# Altium footprint library 4.33-CCM-5.08mm卧式直插插座.PcbLib: 23 footprints (part 2 of 2)
Each footprint in its own frame and in the unit in brackets; x right, y up, seen from the top. Pads: shape width x height; smd on the part's side, far side on the other; paste and mask are expansions set on the pad; w line width, h text height; cw(c..) or ccw(c..) is an arc to the next point about the centre after c.
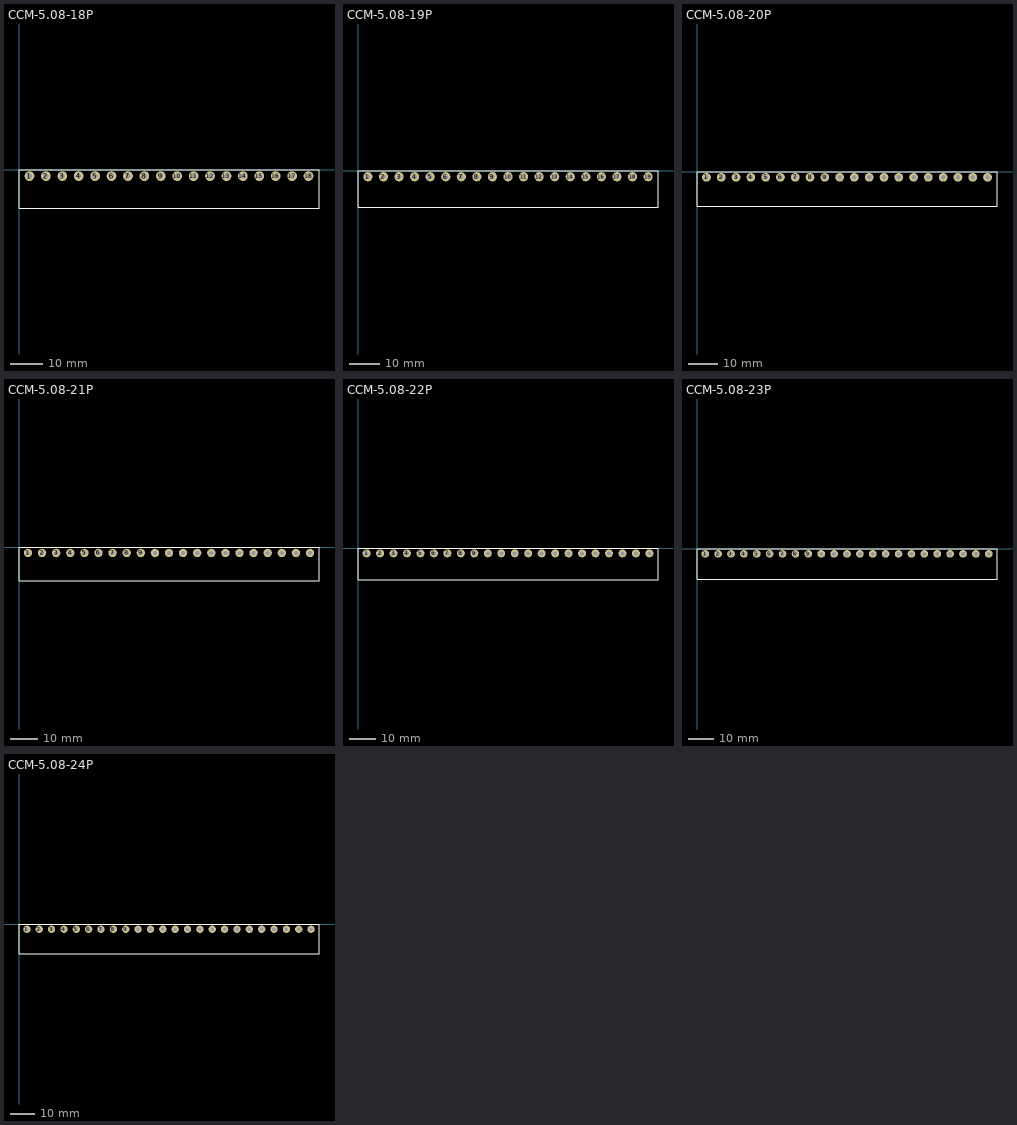
[diagram p1: the footprints below, top view; thin cyan lines are the x and y axes]

## CCM-5.08-18P [mm] "[ PCBѧϰȺ514746572 ]"
pads (18):
  round 3 hole 1.5: 1(3.24,-2) 2(8.32,-2) 3(13.4,-2) 4(18.48,-2) 5(23.56,-2) 6(28.64,-2) 7(33.72,-2) 8(38.8,-2) 9(43.88,-2) 10(48.96,-2) 11(54.04,-2) 12(59.12,-2) 13(64.2,-2) 14(69.28,-2) 15(74.36,-2) 16(79.44,-2) 17(84.52,-2) 18(89.6,-2)
Top Overlay:
  lines w0.203: 5.08,-12 16.64,-12 ; 5.08,0 16.64,0 ; 10.16,-12 21.72,-12 ; 10.16,0 21.72,0 ; 11.56,-12 0,-12 0,0 11.56,0 ; 15.24,-12 26.8,-12 ; 15.24,0 26.8,0 ; 20.32,-12 92.84,-12 92.84,0 20.32,0
3D body "5.08-18P.STEP": height 8.54, standoff -3.96, extent 0.08,-12 92.92,0

## CCM-5.08-19P [mm] "[ PCBѧϰȺ514746572 ]"
pads (19):
  round 3 hole 1.5: 1(3.24,-2) 2(8.32,-2) 3(13.4,-2) 4(18.48,-2) 5(23.56,-2) 6(28.64,-2) 7(33.72,-2) 8(38.8,-2) 9(43.88,-2) 10(48.96,-2) 11(54.04,-2) 12(59.12,-2) 13(64.2,-2) 14(69.28,-2) 15(74.36,-2) 16(79.44,-2) 17(84.52,-2) 18(89.6,-2) 19(94.68,-2)
Top Overlay:
  lines w0.203: 5.08,-12 16.64,-12 ; 5.08,0 16.64,0 ; 10.16,-12 21.72,-12 ; 10.16,0 21.72,0 ; 11.56,-12 0,-12 0,0 11.56,0 ; 15.24,-12 26.8,-12 ; 15.24,0 26.8,0 ; 20.32,-12 97.92,-12 97.92,0 20.32,0
3D body "5.08-19P.STEP": height 8.54, standoff -3.96, extent 0.04,-12 97.96,0

## CCM-5.08-20P [mm] "[ PCBѧϰȺ514746572 ]"
pads (20):
  round 3 hole 1.5: 1(3.24,-2) 2(8.32,-2) 3(13.4,-2) 4(18.48,-2) 5(23.56,-2) 6(28.64,-2) 7(33.72,-2) 8(38.8,-2) 9(43.88,-2) 10(48.96,-2) 11(54.04,-2) 12(59.12,-2) 13(64.2,-2) 14(69.28,-2) 15(74.36,-2) 16(79.44,-2) 17(84.52,-2) 18(89.6,-2) 19(94.68,-2) 20(99.76,-2)
Top Overlay:
  lines w0.203: 5.08,-12 16.64,-12 ; 5.08,0 16.64,0 ; 10.16,-12 21.72,-12 ; 10.16,0 21.72,0 ; 11.56,-12 0,-12 0,0 11.56,0 ; 15.24,-12 26.8,-12 ; 15.24,0 26.8,0 ; 20.32,-12 103,-12 103,0 20.32,0
3D body "5.08-20P .STEP": height 8.54, standoff -3.96, extent 0,-12 103,0

## CCM-5.08-21P [mm] "[ PCBѧϰȺ514746572 ]"
pads (21):
  round 3 hole 1.5: 1(3.24,-2) 2(8.32,-2) 3(13.4,-2) 4(18.48,-2) 5(23.56,-2) 6(28.64,-2) 7(33.72,-2) 8(38.8,-2) 9(43.88,-2) 10(48.96,-2) 11(54.04,-2) 12(59.12,-2) 13(64.2,-2) 14(69.28,-2) 15(74.36,-2) 16(79.44,-2) 17(84.52,-2) 18(89.6,-2) 19(94.68,-2) 20(99.76,-2) 21(104.84,-2)
Top Overlay:
  lines w0.203: 5.08,-12 16.64,-12 ; 5.08,0 16.64,0 ; 10.16,-12 21.72,-12 ; 10.16,0 21.72,0 ; 11.56,-12 0,-12 0,0 11.56,0 ; 15.24,-12 26.8,-12 ; 15.24,0 26.8,0 ; 20.32,-12 108.08,-12 108.08,0 20.32,0
3D body "5.08-21P .STEP": height 8.54, standoff -3.96, extent 0,-12 108.08,0

## CCM-5.08-22P [mm] "[ PCBѧϰȺ514746572 ]"
pads (22):
  round 3 hole 1.5: 1(3.24,-2) 2(8.32,-2) 3(13.4,-2) 4(18.48,-2) 5(23.56,-2) 6(28.64,-2) 7(33.72,-2) 8(38.8,-2) 9(43.88,-2) 10(48.96,-2) 11(54.04,-2) 12(59.12,-2) 13(64.2,-2) 14(69.28,-2) 15(74.36,-2) 16(79.44,-2) 17(84.52,-2) 18(89.6,-2) 19(94.68,-2) 20(99.76,-2) 21(104.84,-2) 22(109.92,-2)
Top Overlay:
  lines w0.203: 5.08,-12 16.64,-12 ; 5.08,0 16.64,0 ; 10.16,-12 21.72,-12 ; 10.16,0 21.72,0 ; 11.56,-12 0,-12 0,0 11.56,0 ; 15.24,-12 26.8,-12 ; 15.24,0 26.8,0 ; 20.32,-12 113.16,-12 113.16,0 20.32,0
3D body "5.08-22P .STEP": height 8.54, standoff -3.96, extent 0,-12 113.16,0

## CCM-5.08-23P [mm] "[ PCBѧϰȺ514746572 ]"
pads (23):
  round 3 hole 1.5: 1(3.24,-2) 2(8.32,-2) 3(13.4,-2) 4(18.48,-2) 5(23.56,-2) 6(28.64,-2) 7(33.72,-2) 8(38.8,-2) 9(43.88,-2) 10(48.96,-2) 11(54.04,-2) 12(59.12,-2) 13(64.2,-2) 14(69.28,-2) 15(74.36,-2) 16(79.44,-2) 17(84.52,-2) 18(89.6,-2) 19(94.68,-2) 20(99.76,-2) 21(104.84,-2) 22(109.92,-2) 23(115,-2)
Top Overlay:
  lines w0.203: 5.08,-12 16.64,-12 ; 5.08,0 16.64,0 ; 10.16,-12 21.72,-12 ; 10.16,0 21.72,0 ; 11.56,-12 0,-12 0,0 11.56,0 ; 15.24,-12 26.8,-12 ; 15.24,0 26.8,0 ; 20.32,-12 118.24,-12 118.24,0 20.32,0
3D body "5.08-23P .STEP": height 8.54, standoff -3.96, extent 0,-12 118.24,0

## CCM-5.08-24P [mm] "[ PCBѧϰȺ514746572 ]"
pads (24):
  round 3 hole 1.5: 1(3.24,-2) 2(8.32,-2) 3(13.4,-2) 4(18.48,-2) 5(23.56,-2) 6(28.64,-2) 7(33.72,-2) 8(38.8,-2) 9(43.88,-2) 10(48.96,-2) 11(54.04,-2) 12(59.12,-2) 13(64.2,-2) 14(69.28,-2) 15(74.36,-2) 16(79.44,-2) 17(84.52,-2) 18(89.6,-2) 19(94.68,-2) 20(99.76,-2) 21(104.84,-2) 22(109.92,-2) 23(115,-2) 24(120.08,-2)
Top Overlay:
  lines w0.203: 5.08,-12 16.64,-12 ; 5.08,0 16.64,0 ; 10.16,-12 21.72,-12 ; 10.16,0 21.72,0 ; 11.56,-12 0,-12 0,0 11.56,0 ; 15.24,-12 26.8,-12 ; 15.24,0 26.8,0 ; 20.32,-12 123.32,-12 123.32,0 20.32,0
3D body "5.08-24P.STEP": height 8.54, standoff -3.96, extent 0.09,-12 123.41,0